# EAGLE library part SSW-106-02-S-D (library con-samtec)
THROUGH-HOLE .025" SQ POST SOCKET Source: Samtec SSW.pdf
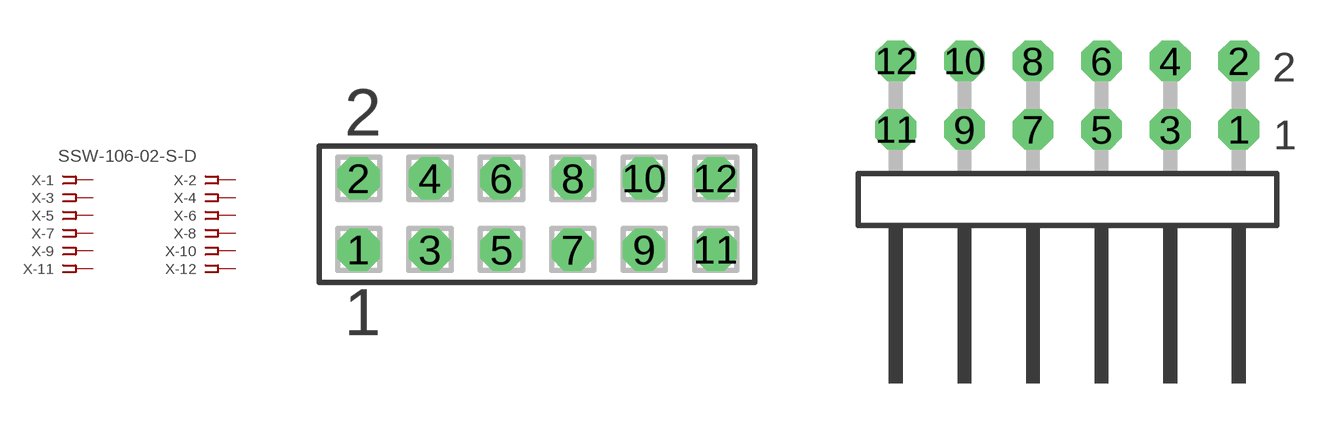
[diagram p193: symbol with the pads of SSW-106-02-S-D; footprints SSW-106-02-S-D, TSW-106-02-S-D-RA]

Designator prefix X; gates -1=FPINV -2=FPIN -3=FPIN -4=FPIN -5=FPIN -6=FPIN -7=FPIN -8=FPIN -9=FPIN -10=FPIN -11=FPIN -12=FPIN

## SSW-106-02-S-D (MPN: SSW-106-02-S-D; OC_FARNELL: unknown; OC_NEWARK: 11P9414)  [SSW-106-02-S-D]
1  -1:1  pas
2  -2:1  pas
3  -3:1  pas
4  -4:1  pas
5  -5:1  pas
6  -6:1  pas
7  -7:1  pas
8  -8:1  pas
9  -9:1  pas
10  -10:1  pas
11  -11:1  pas
12  -12:1  pas

## SSW-106-02-S-D-RA (MPN: SSW-106-02-S-D-RA; OC_FARNELL: unknown; OC_NEWARK: 11P9415)  [TSW-106-02-S-D-RA]
Pads as for SSW-106-02-S-D

## Footprint SSW-106-02-S-D (pad centres in mm)
THROUGH-HOLE .025" SQ POST SOCKET Source: Samtec SSW.pdf
drill 1 pad 1.5 octagon: 1 -6.35,-1.27; 2 -6.35,1.27; 3 -3.81,-1.27; 4 -3.81,1.27; 5 -1.27,-1.27; 6 -1.27,1.27; 7 1.27,-1.27; 8 1.27,1.27; 9 3.81,-1.27; 10 3.81,1.27; 11 6.35,-1.27; 12 6.35,1.27

## Footprint TSW-106-02-S-D-RA (pad centres in mm)
THROUGH-HOLE .025" SQ POST HEADER Source: Samtec TSW.pdf
drill 1 pad 1.5 octagon: 1 6.35,1.524; 2 6.35,4.064; 3 3.81,1.524; 4 3.81,4.064; 5 1.27,1.524; 6 1.27,4.064; 7 -1.27,1.524; 8 -1.27,4.064; 9 -3.81,1.524; 10 -3.81,4.064; 11 -6.35,1.524; 12 -6.35,4.064